# Altium footprint library MSOP-8.PcbLib: 1 footprints
Each footprint in its own frame and in the unit in brackets; x right, y up, seen from the top. Pads: shape width x height; smd on the part's side, far side on the other; paste and mask are expansions set on the pad; w line width, h text height; cw(c..) or ccw(c..) is an arc to the next point about the centre after c.
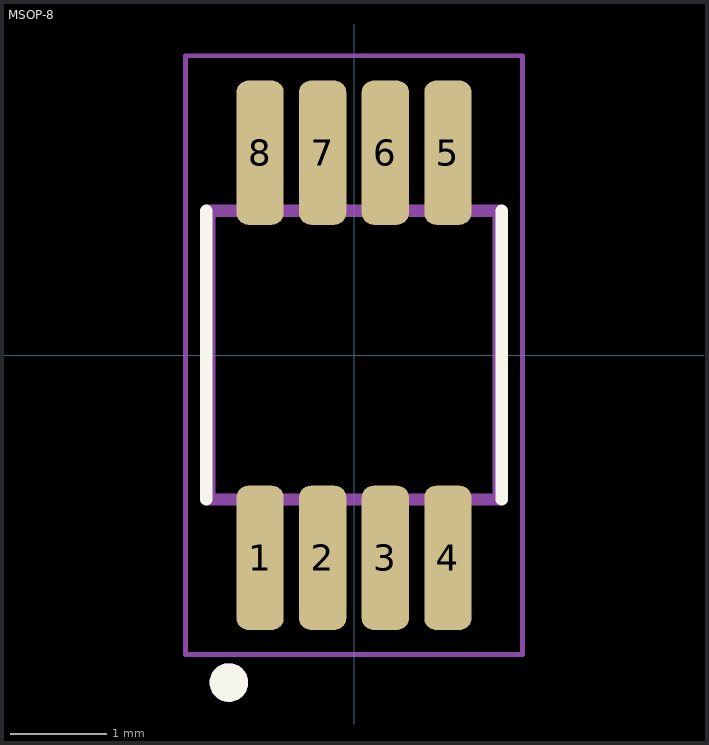
[diagram p0: the footprint, top view; thin cyan lines are the x and y axes]

## MSOP-8 [mm]
pads (8):
  rrect50% 0.49x1.5 smd mask+0.04: 1(-0.975,-2.105) 2(-0.325,-2.105) 3(0.325,-2.105) 4(0.975,-2.105) 5(0.975,2.105) 6(0.325,2.105) 7(-0.325,2.105) 8(-0.975,2.105)
Top Overlay:
  circle w0.2: c-1.3,-3.4 r0.1
  lines w0.127: -1.534,-1.5 -1.534,1.5 ; 1.534,-1.5 1.534,1.5
Top 3D Body:
  circle w0.2: c-1.3,-3.4 r0.1
  lines w0.127: -1.5,-1.5 -1.5,1.5 1.5,1.5 1.5,-1.5 -1.5,-1.5
Top Courtyard:
  lines w0.05: -1.75,-3.11 -1.75,3.11 1.75,3.11 1.75,-3.11 -1.75,-3.11
3D body "MCP4822-E_MS.STEP": height 1.1, standoff 0, extent -1.5,-2.45 1.5,2.45